# EAGLE library part HDR-1X6 (library connector)
1x6 HDR size -Breakable strip
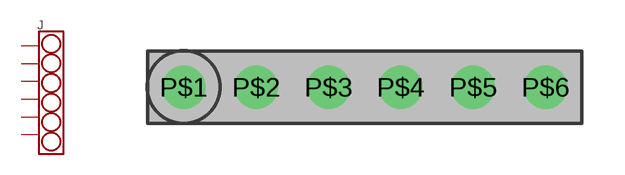
[diagram p0: symbol with the pads of HDR-1X6; footprint HDR-1X6]

Designator prefix J

## HDR-1X6  [HDR-1X6]
P$1  P$1
P$2  P$2
P$3  P$3
P$4  P$4
P$5  P$5
P$6  P$6

## Footprint HDR-1X6 (pad centres in mm)
drill 1.016: P$1 -6.35,0; P$2 -3.81,0; P$3 -1.27,0; P$4 1.27,0; P$5 3.81,0; P$6 6.35,0